# Altium footprint library ISL6236A.PcbLib: 9 footprints
Each footprint in its own frame and in the unit in brackets; x right, y up, seen from the top. Pads: shape width x height; smd on the part's side, far side on the other; paste and mask are expansions set on the pad; w line width, h text height; cw(c..) or ccw(c..) is an arc to the next point about the centre after c.
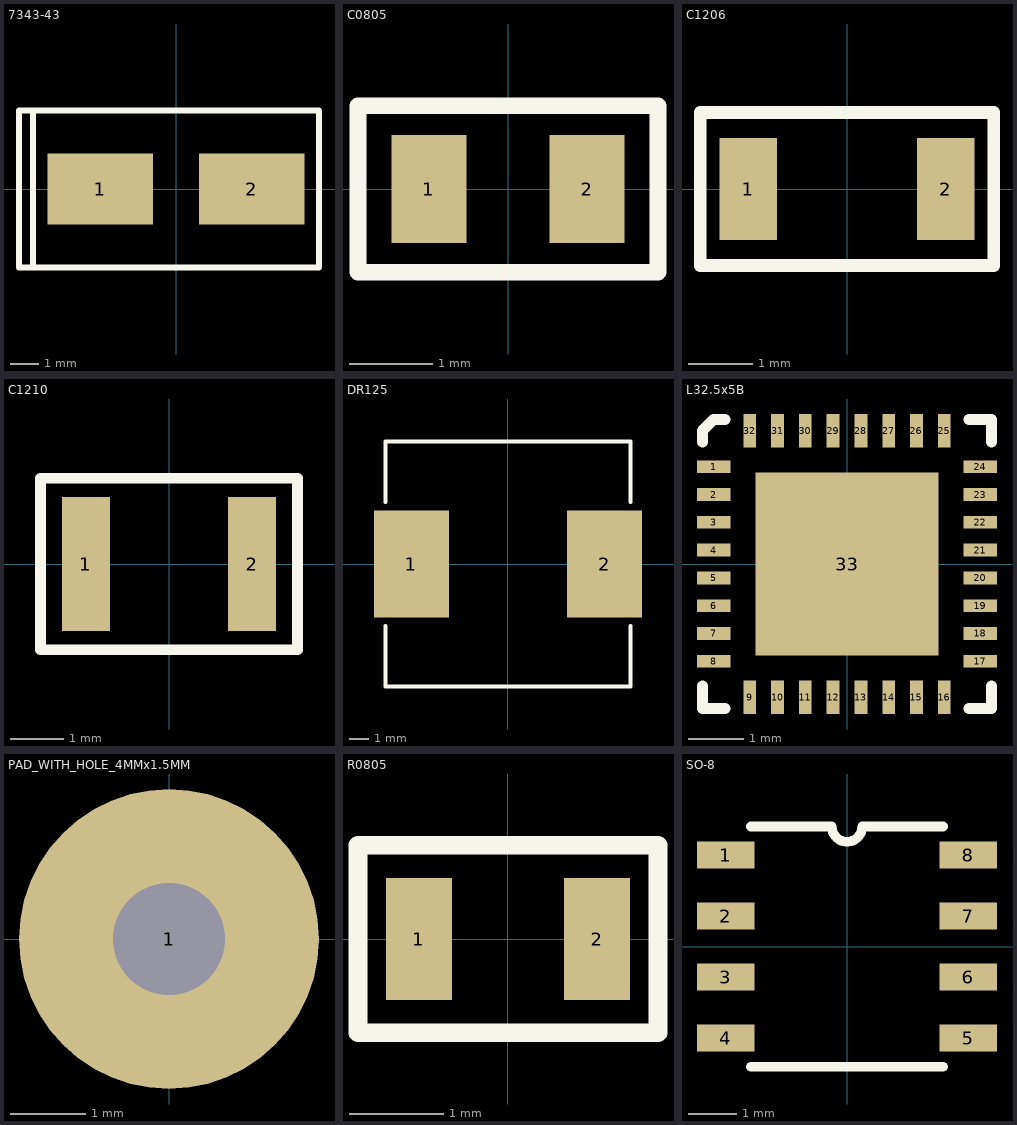
[diagram p0: the footprints below, top view; thin cyan lines are the x and y axes]

## 7343-43 [mm]
pads (2):
  rect 3.75x2.55 smd: 1(-2.7,0) 2(2.7,0)
Top Overlay:
  lines w0.2: -5.1,-2.8 5.1,-2.8 5.1,2.8 -5.1,2.8 ; -5.1,-2.8 -5.1,2.8 ; -5.1,-2.8 -5.6,-2.8 -5.6,2.8 -5.1,2.8
3D body "CAPMP76X43_43N_KEM.step": height 4.35, standoff 0, extent -3.8,-2.15 3.8,2.15

## C0805 [mm]
pads (2):
  rect 0.9x1.3 smd: 1(-0.95,0) 2(0.95,0)
Top Overlay:
  lines w0.2: -1.8,-1 1.8,-1 1.8,1 -1.8,1 -1.8,-1
3D body "CAPC2012X94N EIA 0805.step": height 0.95, standoff 0.01, extent -1,-0.6 1,0.6

## C1206 [mm]
pads (2):
  rect 0.9x1.6 smd: 1(-1.55,0) 2(1.55,0)
Top Overlay:
  lines w0.2: -2.3,-1.2 2.3,-1.2 2.3,1.2 -2.3,1.2 -2.3,-1.2
3D body "CAPC3216X180N EIA 1206.step": height 1.61, standoff 0.01, extent -1.6,-0.9 1.6,0.9

## C1210 [mm]
pads (2):
  rect 0.9x2.5 smd: 1(-1.55,0) 2(1.55,0)
Top Overlay:
  lines w0.2: -2.4,-1.6 2.4,-1.6 2.4,1.6 -2.4,1.6 -2.4,-1.6
3D body "CAPC3225X270N EIA 1210.step": height 2.71, standoff 0.01, extent -1.6,-1.25 1.6,1.25

## DR125 [mm]
pads (2):
  rect 3.85x5.5 smd: 1(-4.975,0) 2(4.975,0)
Top Overlay:
  lines w0.2: -6.3,-3.2 -6.3,-6.3 6.3,-6.3 6.3,-3.2 ; -6.3,3.2 -6.3,6.3 6.3,6.3 6.3,3.2
3D body "DR125-3R3-R--3DModel-STEP-1.STEP": height 6, standoff 0, extent -6.25,-6.25 6.25,6.25

## L32.5x5B [mm]
pads (33):
  rect 0.6x0.23 smd mask+0.051: 1(-2.4,1.75) 2(-2.4,1.25) 3(-2.4,0.75) 4(-2.4,0.25) 5(-2.4,-0.25) 6(-2.4,-0.75) 7(-2.4,-1.25) 8(-2.4,-1.75) 17(2.4,-1.75) 18(2.4,-1.25) 19(2.4,-0.75) 20(2.4,-0.25) 21(2.4,0.25) 22(2.4,0.75) 23(2.4,1.25) 24(2.4,1.75)
  rect 0.23x0.6 smd mask+0.051: 9(-1.75,-2.4) 10(-1.25,-2.4) 11(-0.75,-2.4) 12(-0.25,-2.4) 13(0.25,-2.4) 14(0.75,-2.4) 15(1.25,-2.4) 16(1.75,-2.4) 25(1.75,2.4) 26(1.25,2.4) 27(0.75,2.4) 28(0.25,2.4) 29(-0.25,2.4) 30(-0.75,2.4) 31(-1.25,2.4) 32(-1.75,2.4)
  rect 3.3x3.3 smd mask+0.051: 33(0,0)
Top Overlay:
  lines w0.2: -2.6,-2.2 -2.6,-2.6 -2.2,-2.6 ; -2.6,2.2 -2.6,2.4 -2.4,2.6 -2.2,2.6 ; 2.2,-2.6 2.6,-2.6 2.6,-2.2 ; 2.2,2.6 2.6,2.6 2.6,2.2
3D body "QFN32_5X5_INR.step": height 0.99, standoff 0, extent -2.502,-2.502 2.502,2.502

## PAD_WITH_HOLE_4MMx1.5MM [mm]
pads (1):
  round 4 hole 1.5: 1(0,0)

## R0805 [mm]
pads (2):
  rect 0.7x1.3 smd: 1(-0.95,0) 2(0.95,0)
Top Overlay:
  lines w0.2: -1.6,-1 1.6,-1 1.6,1 -1.6,1 -1.6,-1
3D body "User Library-Chip Resistor2.step": height 0.71, standoff 0.01, extent -1,-0.6 1,0.6

## SO-8 [mm]
pads (8):
  rect 1.194x0.559 smd: 1(-2.527,1.905) 2(-2.527,0.635) 3(-2.527,-0.635) 4(-2.527,-1.905) 5(2.527,-1.905) 6(2.527,-0.635) 7(2.527,0.635) 8(2.527,1.905)
Top Overlay:
  lines w0.2: -2,-2.5 2,-2.5 ; -2,2.5 -0.318,2.5 ccw(c0,2.5) 0.318,2.5 2,2.5
3D body "CircuitWorks-SO-8.step": height 1.36, standoff -0.09, extent -2.889,-2.427 2.889,2.475